# Altium footprint library RESC3225X07.PcbLib: 1 footprints
Each footprint in its own frame and in the unit in brackets; x right, y up, seen from the top. Pads: shape width x height; smd on the part's side, far side on the other; paste and mask are expansions set on the pad; w line width, h text height; cw(c..) or ccw(c..) is an arc to the next point about the centre after c.
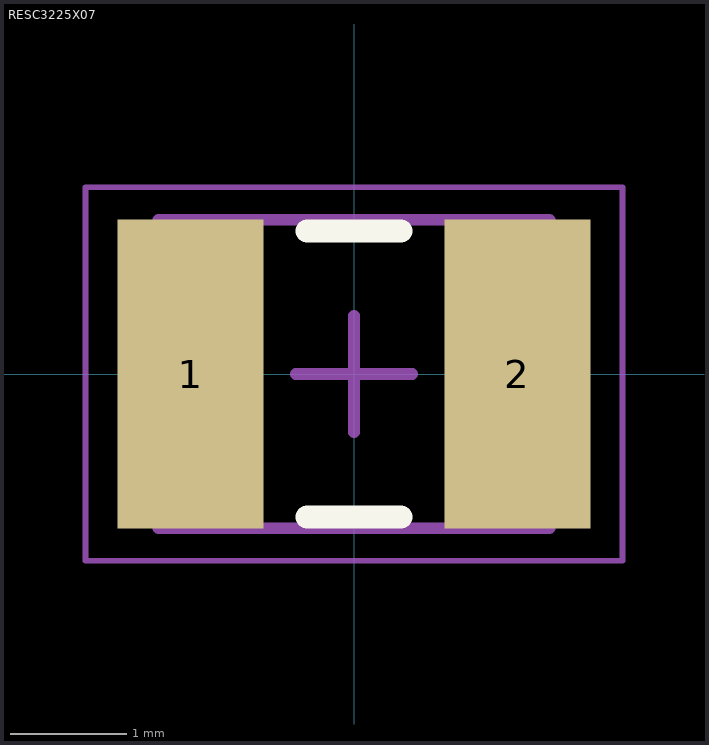
[diagram p0: the footprint, top view; thin cyan lines are the x and y axes]

## RESC3225X07 [mm] "Chip Resistor, 2-Leads, Body 3,20x2,49mm, IPC Medium Density 1210"
height 0.71
pads (2):
  rect 1.25x2.65 smd: 1(-1.4,0) 2(1.4,0)
Top Overlay:
  lines w0.2: -0.4,-1.225 0.4,-1.225 ; -0.4,1.225 0.4,1.225
3D Body:
  lines w0.1: -1.675,-1.32 1.675,-1.32 1.675,1.32 -1.675,1.32 -1.675,-1.32
Board:
  lines w0.05: -2.3,-1.6 2.3,-1.6 2.3,1.6 -2.3,1.6 -2.3,-1.6
  lines w0.1: -0.5,0 0.5,0 ; 0,-0.5 0,0.5
3D body: height 0.71, standoff 0, extent 1.175,-1.32 1.675,1.32
3D body: height 0.71, standoff 0, extent -1.675,-1.32 -1.175,1.32
3D body: height 0.71, standoff 0, extent -1.175,-1.32 1.175,1.32